# EAGLE library part H7 (library aurigaBot)
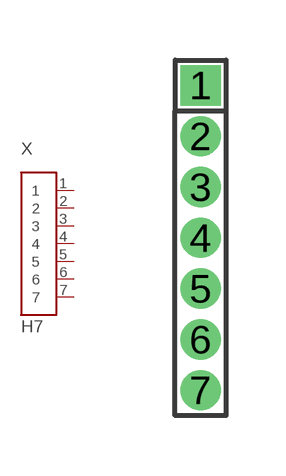
[diagram p12: symbol with the pads of HEADER7_50MIL; footprint HEADER7_50MIL]

Designator prefix X

## H750MIL  [HEADER7_50MIL]
1  1
2  2
3  3
4  4
5  5
6  6
7  7

## Footprint HEADER7_50MIL (pad centres in mm)
drill 0.5 pad 0.813 square: 1 0,3.81
drill 0.5 pad 0.813 round: 2 0,2.54; 3 0,1.27; 4 0,0; 5 0,-1.27; 6 0,-2.54; 7 0,-3.81